# Altium integrated library XC6206P332MRN.IntLib: 1 symbol
Pins are listed as number, name and electrical type; pins without a type are passive.

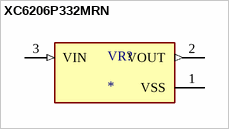
[diagram p0: symbol XC6206P332MRN]

## XC6206P332MRN
designator VR?
Power Management, pin, Linear Regulators, regulator, sot, Semiconductors and Actives; MF: Torex; MP: XC6206P332MRN; SnapEDA_Link: https://www.snapeda.com/parts/XC6206P332MRN/Torex/view-part/?ref=snap; Package: SOT-23 Torex; Value: *; Check_prices: https://www.snapeda.com/parts/XC6206P332MRN/Torex/view-part/?ref=eda
footprint VREG_XC6206P332MRN
pins: 1 VSS (power), 2 VOUT (out), 3 VIN (in)